# EAGLE library part ULN2003A (library ULN2003A)
Darlington Array x7 NPN 50V 0.5A PDIP16 STMicroelectronics ULN2003A, 7-element NPN Darlington Transistor Array, 0.5 A 50 V HFE:1000, 16-Pin PDIP Source: Datasheet <http://www.st.com/web/en/resource/technical/document/datasheet/CD00001244.pdf>
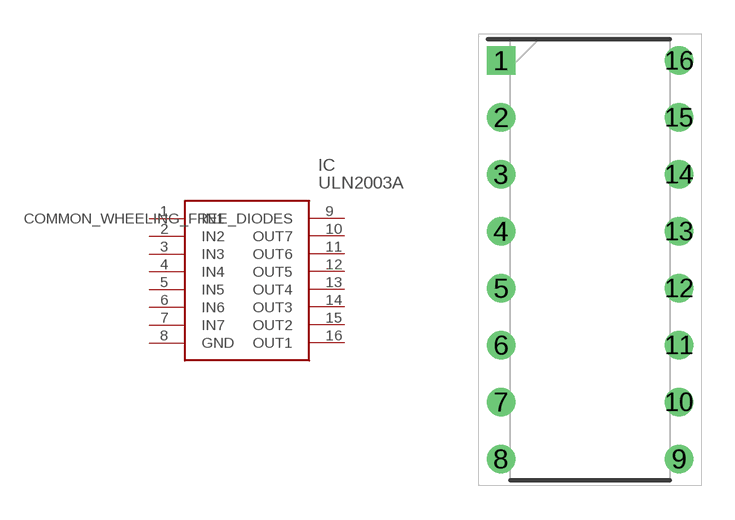
[diagram p0: symbol with the pads of DIP794W56P254L1918H533Q16N; footprint DIP794W56P254L1918H533Q16N]

Designator prefix IC

## ULN2003A (Description: Darlington Array x7 NPN 50V 0.5A PDIP16 STMicroelectronics ULN2003A, 7-element NPN Darlington Transistor Array, 0.5 A 50 V HFE:1000, 16-Pin PDIP; Height: 5.33mm; Manufacturer_Name: STMicroelectronics; Manufacturer_Part_Number: ULN2003A; Mouser_Part_Number: 511-ULN2003A; Mouser_Price-Stock: https://www.mouser.co.uk/ProductDetail/STMicroelectronics/ULN2003A?qs=FOlmdCx%252BAA1P2avu3tWCRw%3D%3D)  [DIP794W56P254L1918H533Q16N]
1  IN1
2  IN2
3  IN3
4  IN4
5  IN5
6  IN6
7  IN7
8  GND
9  COMMON_WHEELING_FREE_DIODES
10  OUT7
11  OUT6
12  OUT5
13  OUT4
14  OUT3
15  OUT2
16  OUT1

## Footprint DIP794W56P254L1918H533Q16N (pad centres in mm)
DIP16_2020
drill 0.76 pad 1.16 square: 1 -3.97,8.89
drill 0.76 pad 1.16: 2 -3.97,6.35; 3 -3.97,3.81; 4 -3.97,1.27; 5 -3.97,-1.27; 6 -3.97,-3.81; 7 -3.97,-6.35; 8 -3.97,-8.89; 9 3.97,-8.89; 10 3.97,-6.35; 11 3.97,-3.81; 12 3.97,-1.27; 13 3.97,1.27; 14 3.97,3.81; 15 3.97,6.35; 16 3.97,8.89